# Altium footprint library DIP-CN  0607.PcbLib: 329 footprints (part 18 of 21)
Each footprint in its own frame and in the unit in brackets; x right, y up, seen from the top. Pads: shape width x height; smd on the part's side, far side on the other; paste and mask are expansions set on the pad; w line width, h text height; cw(c..) or ccw(c..) is an arc to the next point about the centre after c.
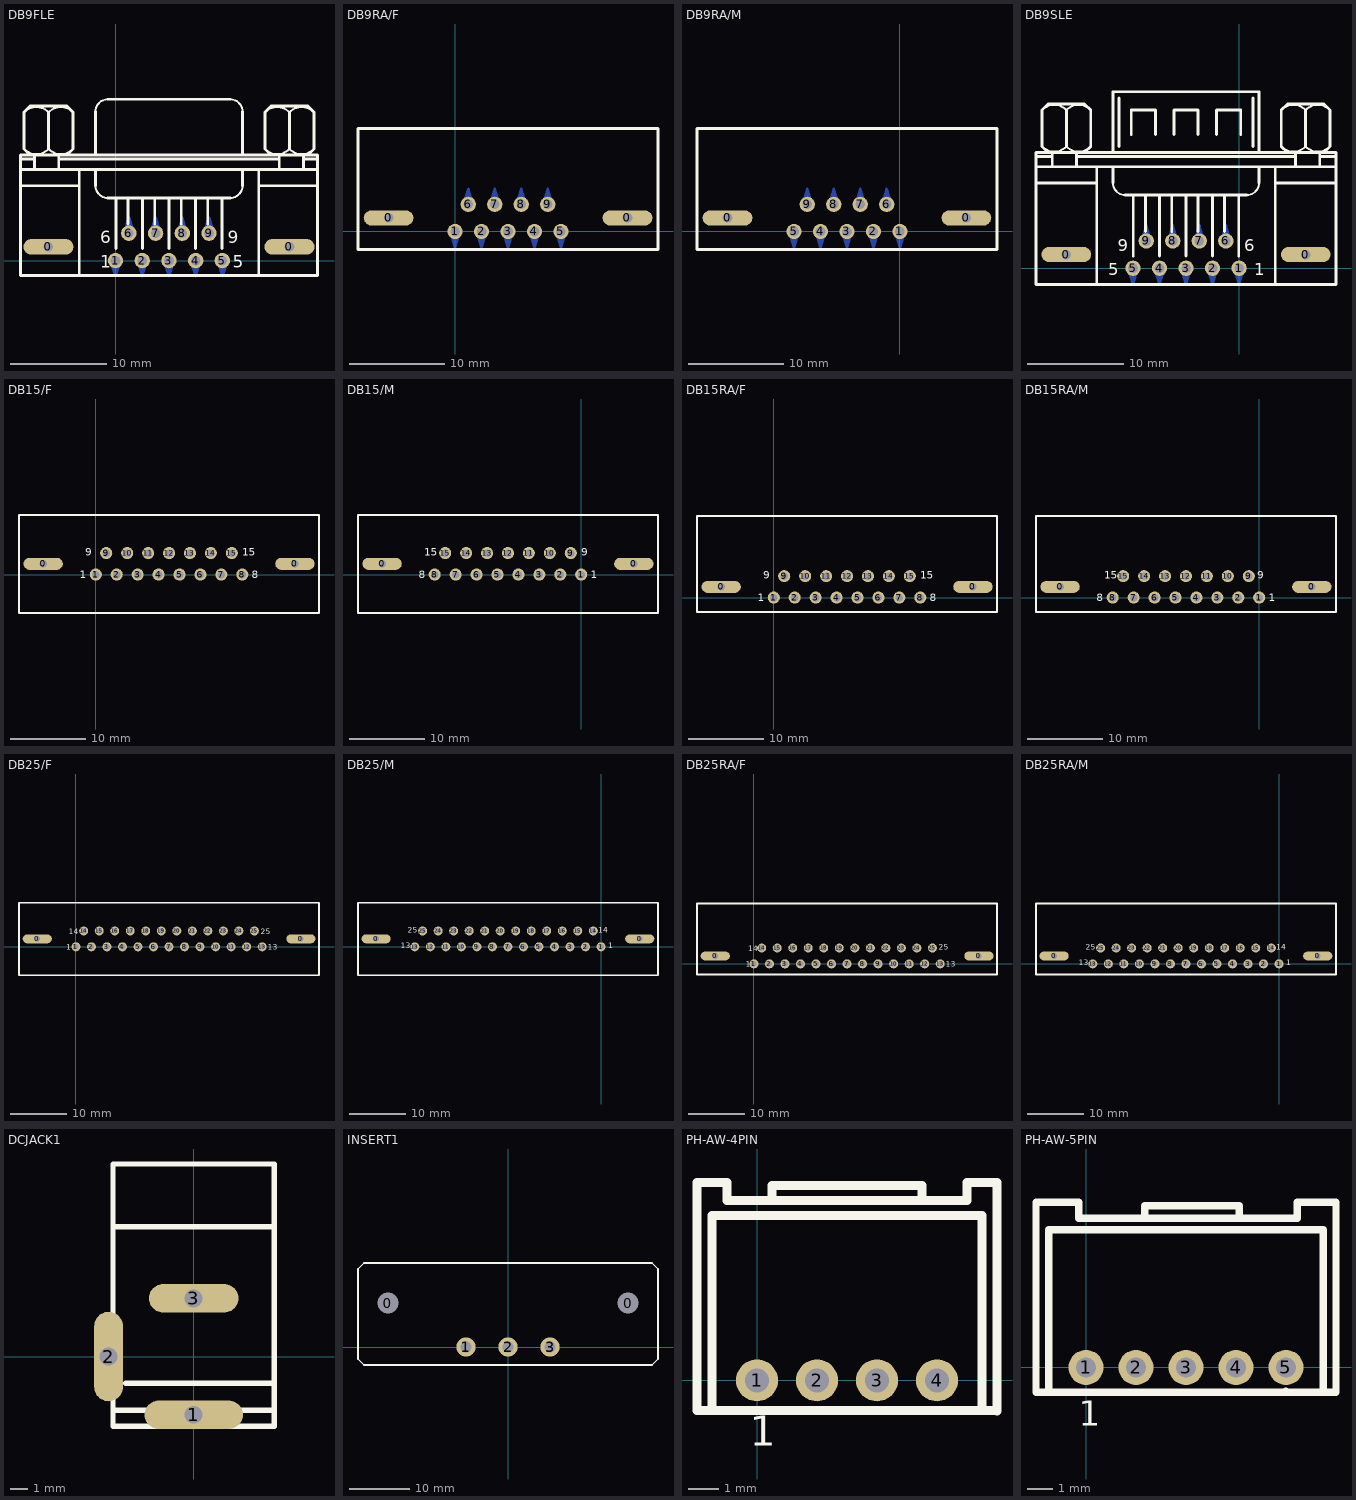
[diagram p17: the footprints below, top view; thin cyan lines are the x and y axes]

## DB9FLE [mm]
pads (11):
  oval 5.2x1.6 hole 1: 0(-6.96,1.42) 0(18.04,1.42)
  round 1.6 hole 1: 1(0,0) 2(2.77,0) 3(5.54,0) 4(8.31,0) 5(11.08,0) 6(1.385,2.84) 7(4.155,2.84) 8(6.925,2.84) 9(9.695,2.84)
BottomLayer:
  lines w0.3: -0.469,-0.03 0,-1.6 ; 0,0 0,-1.6 ; 0.471,-0.056 0,-1.6 ; 0.914,2.896 1.385,4.44 ; 1.385,2.84 1.385,4.44 ; 1.854,2.87 1.385,4.44 ; 2.301,-0.03 2.77,-1.6 ; 2.77,0 2.77,-1.6 ; 3.241,-0.056 2.77,-1.6 ; 3.684,2.896 4.155,4.44 ; 4.155,2.84 4.155,4.44 ; 4.624,2.87 4.155,4.44 ; 5.071,-0.03 5.54,-1.6 ; 5.54,0 5.54,-1.6 ; 6.011,-0.056 5.54,-1.6 ; 6.454,2.896 6.925,4.44 ; 6.925,2.84 6.925,4.44 ; 7.394,2.87 6.925,4.44 ; 7.841,-0.03 8.31,-1.6 ; 8.31,0 8.31,-1.6 ; 8.781,-0.056 8.31,-1.6 ; 9.224,2.896 9.695,4.44 ; 9.695,2.84 9.695,4.44 ; 10.164,2.87 9.695,4.44 ; 10.611,-0.03 11.08,-1.6 ; 11.08,0 11.08,-1.6 ; 11.551,-0.056 11.08,-1.6
TopOverlay:
  lines w0.203: -9.485,11.573 ccw(c-8.213,12.845) -6.941,11.573 ; -9.485,15.387 cw(c-8.213,14.115) -6.941,15.387 ; -6.945,11.573 ccw(c-5.673,12.845) -4.401,11.573 ; -6.945,15.387 cw(c-5.673,14.115) -4.401,15.387 ; -2.074,7.765 ccw(c-0.804,7.765) -0.804,6.495 ; -2.074,15.46 cw(c-0.804,15.46) -0.804,16.73 ; 11.896,6.495 ccw(c11.896,7.765) 13.166,7.765 ; 11.896,16.73 cw(c11.896,15.46) 13.166,15.46 ; 15.492,11.573 ccw(c16.764,12.845) 18.036,11.573 ; 15.492,15.387 cw(c16.764,14.115) 18.036,15.387 ; 18.032,11.573 ccw(c19.304,12.845) 20.576,11.573 ; 18.032,15.387 cw(c19.304,14.115) 20.576,15.387
  lines w0.3: -9.86,7.765 -3.768,7.765 ; -9.86,9.458 20.94,9.458 ; -9.86,10.517 -8.424,10.517 ; -8.848,10.94 -9.483,11.575 -9.483,15.385 -8.848,16.02 -5.038,16.02 -4.403,15.385 -4.403,11.575 -5.038,10.94 ; -8.424,9.458 -8.424,10.94 ; -6.943,11.575 -6.943,15.385 ; -5.884,9.458 -5.884,10.94 ; -5.884,10.517 16.976,10.517 ; -3.768,9.458 -3.768,-1.56 ; -2.074,7.765 -2.074,9.458 ; -2.074,10.94 -2.074,15.46 ; -0.804,6.495 11.896,6.495 ; -0.804,16.73 11.896,16.73 ; 0.042,1.27 0.042,6.495 ; 1.312,3.81 1.312,6.495 ; 2.794,1.27 2.794,6.495 ; 4.064,3.81 4.064,6.495 ; 5.546,1.27 5.546,6.495 ; 6.816,3.81 6.816,6.495 ; 8.297,1.27 8.297,6.495 ; 9.567,3.81 9.567,6.495 ; 11.049,1.27 11.049,6.495 ; 13.166,7.765 13.166,9.458 ; 13.166,10.94 13.166,15.46 ; 14.859,7.765 20.94,7.765 ; 14.859,9.458 14.859,-1.56 ; 16.129,10.94 15.494,11.575 15.494,15.385 16.129,16.02 19.939,16.02 20.574,15.385 20.574,11.575 19.939,10.94 ; 16.976,9.458 16.976,10.94 ; 18.034,11.575 18.034,15.385 ; 19.516,9.458 19.516,10.94 ; 19.516,10.517 20.94,10.517 ; -3.768,-1.56 -9.86,-1.56 -9.86,10.94 20.94,10.94 20.94,-1.56 14.859,-1.56 ; -3.768,-1.56 14.859,-1.56
  text "6" at -1.566,1.778 h1.27
  text "5" at 12.15,-0.762 h1.27
  text "9" at 11.642,1.778 h1.27
  text "1" at -1.566,-0.762 h1.27
BottomOverlay:
  lines w0.3: -0.864,1.422 11.6,1.425 ; 1.385,-1.883 1.386,1.415 ; 2.769,1.425 2.77,4.723 ; 4.155,-1.883 4.156,1.415 ; 5.539,1.425 5.54,4.723 ; 6.925,-1.883 6.926,1.415 ; 8.309,1.425 8.31,4.723 ; 9.695,-1.883 9.696,1.415
BottomSolder:
  lines w0.3: -0.485,-0.06 0,-1.6 ; 0,0 0,-1.6 ; 0.485,-0.06 0,-1.6 ; 0.9,2.9 1.385,4.44 ; 1.385,2.84 1.385,4.44 ; 1.87,2.9 1.385,4.44 ; 2.285,-0.06 2.77,-1.6 ; 2.77,0 2.77,-1.6 ; 3.255,-0.06 2.77,-1.6 ; 3.67,2.9 4.155,4.44 ; 4.155,2.84 4.155,4.44 ; 4.64,2.9 4.155,4.44 ; 5.055,-0.06 5.54,-1.6 ; 5.54,0 5.54,-1.6 ; 6.025,-0.06 5.54,-1.6 ; 6.44,2.9 6.925,4.44 ; 6.925,2.84 6.925,4.44 ; 7.41,2.9 6.925,4.44 ; 7.825,-0.06 8.31,-1.6 ; 8.31,0 8.31,-1.6 ; 8.795,-0.06 8.31,-1.6 ; 9.21,2.9 9.695,4.44 ; 9.695,2.84 9.695,4.44 ; 10.18,2.9 9.695,4.44 ; 10.595,-0.06 11.08,-1.6 ; 11.08,0 11.08,-1.6 ; 11.565,-0.06 11.08,-1.6
DrillDrawing:
  lines w0.2: -8.085,0.92 cw(c-8.085,1.42) -8.085,1.92 ; -5.885,0.92 ccw(c-5.885,1.42) -5.885,1.92 ; 16.94,0.92 cw(c16.94,1.42) 16.94,1.92 ; 19.14,0.92 ccw(c19.14,1.42) 19.14,1.92
  lines w0.3: -8.085,0.92 -5.885,0.92 ; -8.085,1.92 -5.885,1.92 ; -7.985,1.42 -6.985,1.42 -5.985,1.42 ; -6.96,1.12 -6.96,1.42 -6.96,1.72 ; 16.94,0.92 19.14,0.92 ; 16.94,1.92 19.14,1.92 ; 17.04,1.42 18.04,1.42 ; 18.04,1.12 18.04,1.42 ; 18.04,1.72 18.04,1.42 ; 19.04,1.42 18.04,1.42
  text "3.2X1.0mm" at -11.2,2.35 h1.3
  text "3.2X1.0mm" at 13.281,2.25 h1.3

## DB9RA/F [mm]
pads (11):
  oval 5.2x1.6 hole 1: 0(-6.96,1.42) 0(18.04,1.42)
  round 1.6 hole 1: 1(0,0) 2(2.77,0) 3(5.54,0) 4(8.31,0) 5(11.08,0) 6(1.385,2.84) 7(4.155,2.84) 8(6.925,2.84) 9(9.695,2.84)
BottomLayer:
  lines w0.3: -0.469,-0.03 0,-1.6 ; 0,0 0,-1.6 ; 0.471,-0.056 0,-1.6 ; 0.914,2.896 1.385,4.44 ; 1.385,2.84 1.385,4.44 ; 1.854,2.87 1.385,4.44 ; 2.301,-0.03 2.77,-1.6 ; 2.77,0 2.77,-1.6 ; 3.241,-0.056 2.77,-1.6 ; 3.684,2.896 4.155,4.44 ; 4.155,2.84 4.155,4.44 ; 4.624,2.87 4.155,4.44 ; 5.071,-0.03 5.54,-1.6 ; 5.54,0 5.54,-1.6 ; 6.011,-0.056 5.54,-1.6 ; 6.454,2.896 6.925,4.44 ; 6.925,2.84 6.925,4.44 ; 7.394,2.87 6.925,4.44 ; 7.841,-0.03 8.31,-1.6 ; 8.31,0 8.31,-1.6 ; 8.781,-0.056 8.31,-1.6 ; 9.224,2.896 9.695,4.44 ; 9.695,2.84 9.695,4.44 ; 10.164,2.87 9.695,4.44 ; 10.611,-0.03 11.08,-1.6 ; 11.08,0 11.08,-1.6 ; 11.551,-0.056 11.08,-1.6
TopOverlay:
  lines w0.3: -10.16,-1.905 -10.16,10.795 21.234,10.795 21.234,-1.905 -10.16,-1.905
BottomOverlay:
  lines w0.3: -0.864,1.422 11.6,1.425 ; 1.385,-1.883 1.386,1.415 ; 2.769,1.425 2.77,4.723 ; 4.155,-1.883 4.156,1.415 ; 5.539,1.425 5.54,4.723 ; 6.925,-1.883 6.926,1.415 ; 8.309,1.425 8.31,4.723 ; 9.695,-1.883 9.696,1.415
BottomSolder:
  lines w0.3: -0.485,-0.06 0,-1.6 ; 0,0 0,-1.6 ; 0.485,-0.06 0,-1.6 ; 0.9,2.9 1.385,4.44 ; 1.385,2.84 1.385,4.44 ; 1.87,2.9 1.385,4.44 ; 1.9,2.8 1.385,4.44 ; 2.285,-0.06 2.77,-1.6 ; 2.77,0 2.77,-1.6 ; 3.255,-0.06 2.77,-1.6 ; 3.67,2.9 4.155,4.44 ; 4.155,2.84 4.155,4.44 ; 4.64,2.9 4.155,4.44 ; 5.055,-0.06 5.54,-1.6 ; 5.54,0 5.54,-1.6 ; 6.025,-0.06 5.54,-1.6 ; 6.44,2.9 6.925,4.44 ; 6.925,2.84 6.925,4.44 ; 7.41,2.9 6.925,4.44 ; 7.825,-0.06 8.31,-1.6 ; 8.31,0 8.31,-1.6 ; 8.795,-0.06 8.31,-1.6 ; 9.21,2.9 9.695,4.44 ; 9.695,2.84 9.695,4.44 ; 10.18,2.9 9.695,4.44 ; 10.595,-0.06 11.08,-1.6 ; 11.08,0 11.08,-1.6 ; 11.565,-0.06 11.08,-1.6
DrillDrawing:
  lines w0.2: -8.085,0.92 cw(c-8.085,1.42) -8.085,1.92 ; -5.885,0.92 ccw(c-5.885,1.42) -5.885,1.92 ; 16.94,0.92 cw(c16.94,1.42) 16.94,1.92 ; 19.14,0.92 ccw(c19.14,1.42) 19.14,1.92
  lines w0.3: -8.085,0.92 -5.885,0.92 ; -8.085,1.92 -5.885,1.92 ; -7.985,1.42 -6.985,1.42 -5.985,1.42 ; -6.96,1.12 -6.96,1.42 -6.96,1.72 ; 16.94,0.92 19.14,0.92 ; 16.94,1.92 19.14,1.92 ; 17.04,1.42 18.04,1.42 ; 18.04,1.12 18.04,1.42 ; 18.04,1.72 18.04,1.42 ; 19.04,1.42 18.04,1.42
  text "3.2X1.0mm" at -11.2,2.35 h1.3
  text "3.2X1.0mm" at 13.281,2.25 h1.3

## DB9RA/M [mm]
pads (11):
  oval 5.2x1.6 hole 1: 0(-18.04,1.42) 0(6.96,1.42)
  round 1.6 hole 1: 1(0,0) 2(-2.77,0) 3(-5.54,0) 4(-8.31,0) 5(-11.08,0) 6(-1.385,2.84) 7(-4.155,2.84) 8(-6.925,2.84) 9(-9.695,2.84)
BottomLayer:
  lines w0.3: -11.551,-0.056 -11.08,-1.6 ; -11.08,0 -11.08,-1.6 ; -10.611,-0.03 -11.08,-1.6 ; -10.164,2.87 -9.695,4.44 ; -9.695,2.84 -9.695,4.44 ; -9.224,2.896 -9.695,4.44 ; -8.781,-0.056 -8.31,-1.6 ; -8.31,0 -8.31,-1.6 ; -7.841,-0.03 -8.31,-1.6 ; -7.394,2.87 -6.925,4.44 ; -6.925,2.84 -6.925,4.44 ; -6.454,2.896 -6.925,4.44 ; -6.011,-0.056 -5.54,-1.6 ; -5.54,0 -5.54,-1.6 ; -5.071,-0.03 -5.54,-1.6 ; -4.624,2.87 -4.155,4.44 ; -4.155,2.84 -4.155,4.44 ; -3.684,2.896 -4.155,4.44 ; -3.241,-0.056 -2.77,-1.6 ; -2.77,0 -2.77,-1.6 ; -2.301,-0.03 -2.77,-1.6 ; -1.854,2.87 -1.385,4.44 ; -1.385,2.84 -1.385,4.44 ; -0.914,2.896 -1.385,4.44 ; -0.471,-0.056 0,-1.6 ; 0,0 0,-1.6 ; 0.469,-0.03 0,-1.6
TopOverlay:
  lines w0.3: -21.234,-1.905 10.16,-1.905 10.16,10.795 -21.234,10.795 -21.234,-1.905
BottomOverlay:
  lines w0.3: -11.6,1.425 0.864,1.422 ; -9.696,1.415 -9.695,-1.883 ; -8.31,4.723 -8.309,1.425 ; -6.926,1.415 -6.925,-1.883 ; -5.54,4.723 -5.539,1.425 ; -4.156,1.415 -4.155,-1.883 ; -2.77,4.723 -2.769,1.425 ; -1.386,1.415 -1.385,-1.883
BottomSolder:
  lines w0.3: -11.565,-0.06 -11.08,-1.6 ; -11.08,0 -11.08,-1.6 ; -10.595,-0.06 -11.08,-1.6 ; -10.18,2.9 -9.695,4.44 ; -9.695,2.84 -9.695,4.44 ; -9.21,2.9 -9.695,4.44 ; -8.795,-0.06 -8.31,-1.6 ; -8.31,0 -8.31,-1.6 ; -7.825,-0.06 -8.31,-1.6 ; -7.41,2.9 -6.925,4.44 ; -6.925,2.84 -6.925,4.44 ; -6.44,2.9 -6.925,4.44 ; -6.025,-0.06 -5.54,-1.6 ; -5.54,0 -5.54,-1.6 ; -5.055,-0.06 -5.54,-1.6 ; -4.64,2.9 -4.155,4.44 ; -4.155,2.84 -4.155,4.44 ; -3.67,2.9 -4.155,4.44 ; -3.255,-0.06 -2.77,-1.6 ; -2.77,0 -2.77,-1.6 ; -2.285,-0.06 -2.77,-1.6 ; -1.9,2.8 -1.385,4.44 ; -1.87,2.9 -1.385,4.44 ; -1.385,2.84 -1.385,4.44 ; -0.9,2.9 -1.385,4.44 ; -0.485,-0.06 0,-1.6 ; 0,0 0,-1.6 ; 0.485,-0.06 0,-1.6
DrillDrawing:
  lines w0.2: -19.14,0.92 cw(c-19.14,1.42) -19.14,1.92 ; -16.94,0.92 ccw(c-16.94,1.42) -16.94,1.92 ; 5.885,0.92 cw(c5.885,1.42) 5.885,1.92 ; 8.085,0.92 ccw(c8.085,1.42) 8.085,1.92
  lines w0.3: -19.14,0.92 -16.94,0.92 ; -19.14,1.92 -16.94,1.92 ; -19.04,1.42 -18.04,1.42 ; -18.04,1.12 -18.04,1.42 ; -18.04,1.72 -18.04,1.42 ; -17.04,1.42 -18.04,1.42 ; 5.885,0.92 8.085,0.92 ; 5.885,1.92 8.085,1.92 ; 5.985,1.42 6.985,1.42 7.985,1.42 ; 6.96,1.12 6.96,1.42 6.96,1.72
  text "3.2X1.0mm" at -22.25,2.5 h1.3
  text "3.2X1.0mm" at 2,2.5 h1.3

## DB9SLE [mm]
pads (11):
  oval 5.2x1.6 hole 1: 0(-18.04,1.42) 0(6.96,1.42)
  round 1.6 hole 1: 1(0,0) 2(-2.77,0) 3(-5.54,0) 4(-8.31,0) 5(-11.08,0) 6(-1.385,2.84) 7(-4.155,2.84) 8(-6.925,2.84) 9(-9.695,2.84)
BottomLayer:
  lines w0.3: -11.551,-0.056 -11.08,-1.6 ; -11.08,0 -11.08,-1.6 ; -10.611,-0.03 -11.08,-1.6 ; -10.164,2.87 -9.695,4.44 ; -9.695,2.84 -9.695,4.44 ; -9.224,2.896 -9.695,4.44 ; -8.781,-0.056 -8.31,-1.6 ; -8.31,0 -8.31,-1.6 ; -7.841,-0.03 -8.31,-1.6 ; -7.394,2.87 -6.925,4.44 ; -6.925,2.84 -6.925,4.44 ; -6.454,2.896 -6.925,4.44 ; -6.011,-0.056 -5.54,-1.6 ; -5.54,0 -5.54,-1.6 ; -5.071,-0.03 -5.54,-1.6 ; -4.624,2.87 -4.155,4.44 ; -4.155,2.84 -4.155,4.44 ; -3.684,2.896 -4.155,4.44 ; -3.241,-0.056 -2.77,-1.6 ; -2.77,0 -2.77,-1.6 ; -2.301,-0.03 -2.77,-1.6 ; -1.854,2.87 -1.385,4.44 ; -1.385,2.84 -1.385,4.44 ; -0.914,2.896 -1.385,4.44 ; -0.471,-0.056 0,-1.6 ; 0,0 0,-1.6 ; 0.469,-0.03 0,-1.6
TopOverlay:
  lines w0.203: -20.576,12.698 ccw(c-19.304,13.97) -18.032,12.698 ; -20.576,16.512 cw(c-19.304,15.24) -18.032,16.512 ; -18.036,12.698 ccw(c-16.764,13.97) -15.492,12.698 ; -18.036,16.512 cw(c-16.764,15.24) -15.492,16.512 ; -13.166,8.89 ccw(c-11.896,8.89) -11.896,7.62 ; 0.804,7.62 ccw(c0.804,8.89) 2.074,8.89 ; 4.4,12.698 ccw(c5.673,13.97) 6.945,12.698 ; 4.4,16.512 cw(c5.673,15.24) 6.945,16.512 ; 6.94,12.698 ccw(c8.213,13.97) 9.485,12.698 ; 6.94,16.512 cw(c8.213,15.24) 9.485,16.512
  lines w0.3: -21.209,8.89 -14.859,8.89 ; -21.209,10.583 10.118,10.583 ; -21.209,11.642 -19.516,11.642 ; -19.939,12.065 -20.574,12.7 -20.574,16.51 -19.939,17.145 -16.129,17.145 -15.494,16.51 -15.494,12.7 -16.129,12.065 ; -19.516,10.583 -19.516,12.065 ; -18.034,12.7 -18.034,16.51 ; -16.976,10.583 -16.976,12.065 ; -16.976,11.642 5.884,11.642 ; -14.859,10.583 -14.859,-1.693 ; -13.166,8.89 -13.166,10.583 ; -13.166,12.065 -13.166,18.415 2.074,18.415 2.074,12.065 ; -12.531,12.7 -12.531,17.78 ; -11.896,7.62 0.804,7.62 ; -11.261,13.97 -11.261,16.51 -8.721,16.51 -8.721,13.97 ; -11.049,1.27 -11.049,7.62 ; -9.779,3.81 -9.779,7.62 ; -8.297,1.27 -8.297,7.62 ; -7.027,3.81 -7.027,7.62 ; -6.816,13.97 -6.816,16.51 -4.276,16.51 -4.276,13.97 ; -5.546,1.27 -5.546,7.62 ; -4.276,3.81 -4.276,7.62 ; -2.794,1.27 -2.794,7.62 ; -2.371,13.97 -2.371,16.51 0.169,16.51 0.169,13.97 ; -1.524,3.81 -1.524,7.62 ; -0.042,1.27 -0.042,7.62 ; 1.439,12.7 1.439,17.78 ; 2.074,8.89 2.074,10.583 ; 3.768,8.89 10.118,8.89 ; 3.768,10.583 3.768,-1.693 ; 5.038,12.065 4.403,12.7 4.403,16.51 5.038,17.145 8.848,17.145 9.483,16.51 9.483,12.7 8.848,12.065 ; 5.884,10.583 5.884,12.065 ; 6.943,12.7 6.943,16.51 ; 8.424,10.583 8.424,12.065 ; 8.424,11.642 10.118,11.642 ; -14.859,-1.693 3.768,-1.693 ; -14.859,-1.693 -21.209,-1.693 -21.209,12.065 10.118,12.065 10.118,-1.693 3.768,-1.693
  text "9" at -12.658,1.778 h1.27
  text "5" at -13.674,-0.762 h1.27
  text "6" at 0.55,1.778 h1.27
  text "1" at 1.566,-0.762 h1.27
BottomOverlay:
  lines w0.3: -11.6,1.425 0.864,1.422 ; -9.696,1.415 -9.695,-1.883 ; -8.31,4.723 -8.309,1.425 ; -6.926,1.415 -6.925,-1.883 ; -5.54,4.723 -5.539,1.425 ; -4.156,1.415 -4.155,-1.883 ; -2.77,4.723 -2.769,1.425 ; -1.386,1.415 -1.385,-1.883
BottomSolder:
  lines w0.3: -11.565,-0.06 -11.08,-1.6 ; -11.08,0 -11.08,-1.6 ; -10.595,-0.06 -11.08,-1.6 ; -10.18,2.9 -9.695,4.44 ; -9.695,2.84 -9.695,4.44 ; -9.21,2.9 -9.695,4.44 ; -8.795,-0.06 -8.31,-1.6 ; -8.31,0 -8.31,-1.6 ; -7.825,-0.06 -8.31,-1.6 ; -7.41,2.9 -6.925,4.44 ; -6.925,2.84 -6.925,4.44 ; -6.44,2.9 -6.925,4.44 ; -6.025,-0.06 -5.54,-1.6 ; -5.54,0 -5.54,-1.6 ; -5.055,-0.06 -5.54,-1.6 ; -4.64,2.9 -4.155,4.44 ; -4.155,2.84 -4.155,4.44 ; -3.67,2.9 -4.155,4.44 ; -3.255,-0.06 -2.77,-1.6 ; -2.77,0 -2.77,-1.6 ; -2.285,-0.06 -2.77,-1.6 ; -1.9,2.8 -1.385,4.44 ; -1.87,2.9 -1.385,4.44 ; -1.385,2.84 -1.385,4.44 ; -0.9,2.9 -1.385,4.44 ; -0.485,-0.06 0,-1.6 ; 0,0 0,-1.6 ; 0.485,-0.06 0,-1.6
DrillDrawing:
  lines w0.2: -19.14,0.92 cw(c-19.14,1.42) -19.14,1.92 ; -16.94,0.92 ccw(c-16.94,1.42) -16.94,1.92 ; 5.885,0.92 cw(c5.885,1.42) 5.885,1.92 ; 8.085,0.92 ccw(c8.085,1.42) 8.085,1.92
  lines w0.3: -19.14,0.92 -16.94,0.92 ; -19.14,1.92 -16.94,1.92 ; -19.04,1.42 -18.04,1.42 ; -18.04,1.12 -18.04,1.42 ; -18.04,1.72 -18.04,1.42 ; -17.04,1.42 -18.04,1.42 ; 5.885,0.92 8.085,0.92 ; 5.885,1.92 8.085,1.92 ; 5.985,1.42 6.985,1.42 7.985,1.42 ; 6.96,1.12 6.96,1.42 6.96,1.72
  text "3.2X1.0mm" at 2.25,2.5 h1.3
  text "3.2X1.0mm" at -22.25,2.5 h1.3

## DB15/F [mm]
pads (17):
  oval 5.2x1.6 hole 1: 0(-6.96,1.42) 0(26.35,1.42)
  round 1.6 hole 1: 1(0,0) 2(2.77,0) 3(5.54,0) 4(8.31,0) 5(11.08,0) 6(13.85,0) 7(16.62,0) 8(19.39,0) 9(1.385,2.84) 10(4.155,2.84) 11(6.925,2.84) 12(9.695,2.84) 13(12.465,2.84) 14(15.235,2.84) 15(18.005,2.84)
TopOverlay:
  lines w0.3: -10.16,-5.08 29.54,-5.08 29.54,7.874 -10.16,7.874 -10.16,-5.08
  text "1" at -2.11,-0.5 h1
  text "9" at -1.36,2.5 h1
  text "15" at 19.39,2.5 h1
  text "8" at 20.64,-0.5 h1
DrillDrawing:
  lines w0.2: -8.06,0.92 cw(c-8.06,1.42) -8.06,1.92 ; -5.86,0.92 ccw(c-5.86,1.42) -5.86,1.92 ; 25.25,0.92 cw(c25.25,1.42) 25.25,1.92 ; 27.45,0.92 ccw(c27.45,1.42) 27.45,1.92
  lines w0.3: -8.06,0.92 -5.86,0.92 ; -8.06,1.92 -5.86,1.92 ; -7.96,1.42 -6.96,1.42 ; -6.96,1.12 -6.96,1.42 ; -6.96,1.72 -6.96,1.42 ; -5.96,1.42 -6.96,1.42 ; 25.25,0.92 27.45,0.92 ; 25.25,1.92 27.45,1.92 ; 25.35,1.42 26.35,1.42 ; 26.35,1.12 26.35,1.42 ; 26.35,1.72 26.35,1.42 ; 27.35,1.42 26.35,1.42
  text "3.2X1.0mm" at -11.86,2.32 h1.3
  text "3.2X1.0mm" at 21.435,2.323 h1.3

## DB15/M [mm]
pads (17):
  oval 5.2x1.6 hole 1: 0(-26.35,1.42) 0(6.96,1.42)
  round 1.6 hole 1: 1(0,0) 2(-2.77,0) 3(-5.54,0) 4(-8.31,0) 5(-11.08,0) 6(-13.85,0) 7(-16.62,0) 8(-19.39,0) 9(-1.385,2.84) 10(-4.155,2.84) 11(-6.925,2.84) 12(-9.695,2.84) 13(-12.465,2.84) 14(-15.235,2.84) 15(-18.005,2.84)
TopOverlay:
  lines w0.3: -29.54,-5.08 -29.54,7.874 10.16,7.874 10.16,-5.08 -29.54,-5.08
  text "8" at -21.5,-0.5 h1
  text "15" at -20.75,2.5 h1
  text "9" at 0,2.5 h1
  text "1" at 1.25,-0.5 h1
DrillDrawing:
  lines w0.2: -27.45,0.92 cw(c-27.45,1.42) -27.45,1.92 ; -25.25,0.92 ccw(c-25.25,1.42) -25.25,1.92 ; 5.86,0.92 cw(c5.86,1.42) 5.86,1.92 ; 8.06,0.92 ccw(c8.06,1.42) 8.06,1.92
  lines w0.3: -27.45,0.92 -25.25,0.92 ; -27.45,1.92 -25.25,1.92 ; -27.35,1.42 -26.35,1.42 ; -26.35,1.12 -26.35,1.42 ; -26.35,1.72 -26.35,1.42 ; -25.35,1.42 -26.35,1.42 ; 5.86,0.92 8.06,0.92 ; 5.86,1.92 8.06,1.92 ; 5.96,1.42 6.96,1.42 ; 6.96,1.12 6.96,1.42 ; 6.96,1.72 6.96,1.42 ; 7.96,1.42 6.96,1.42
  text "3.2X1.0mm" at -31,3 h1.3
  text "3.2X1.0mm" at 3,3 h1.3

## DB15RA/F [mm]
pads (17):
  oval 5.2x1.6 hole 1: 0(-6.96,1.42) 0(26.35,1.42)
  round 1.6 hole 1: 1(0,0) 2(2.77,0) 3(5.54,0) 4(8.31,0) 5(11.08,0) 6(13.85,0) 7(16.62,0) 8(19.39,0) 9(1.385,2.84) 10(4.155,2.84) 11(6.925,2.84) 12(9.695,2.84) 13(12.465,2.84) 14(15.235,2.84) 15(18.005,2.84)
TopOverlay:
  lines w0.3: -10.16,-1.905 29.54,-1.905 29.54,10.795 -10.16,10.795 -10.16,-1.905
  text "8" at 20.64,-0.5 h1
  text "15" at 19.39,2.5 h1
  text "9" at -1.36,2.5 h1
  text "1" at -2.11,-0.5 h1
DrillDrawing:
  lines w0.2: -8.06,0.92 cw(c-8.06,1.42) -8.06,1.92 ; -5.86,0.92 ccw(c-5.86,1.42) -5.86,1.92 ; 25.25,0.92 cw(c25.25,1.42) 25.25,1.92 ; 27.45,0.92 ccw(c27.45,1.42) 27.45,1.92
  lines w0.3: -8.06,0.92 -5.86,0.92 ; -8.06,1.92 -5.86,1.92 ; -7.96,1.42 -6.96,1.42 ; -6.96,1.12 -6.96,1.42 ; -6.96,1.72 -6.96,1.42 ; -5.96,1.42 -6.96,1.42 ; 25.25,0.92 27.45,0.92 ; 25.25,1.92 27.45,1.92 ; 25.35,1.42 26.35,1.42 ; 26.35,1.12 26.35,1.42 ; 26.35,1.72 26.35,1.42 ; 27.35,1.42 26.35,1.42
  text "3.2X1.0mm" at 21.435,2.323 h1.3
  text "3.2X1.0mm" at -11.86,2.32 h1.3

## DB15RA/M [mm]
pads (17):
  oval 5.2x1.6 hole 1: 0(-26.35,1.42) 0(6.96,1.42)
  round 1.6 hole 1: 1(0,0) 2(-2.77,0) 3(-5.54,0) 4(-8.31,0) 5(-11.08,0) 6(-13.85,0) 7(-16.62,0) 8(-19.39,0) 9(-1.385,2.84) 10(-4.155,2.84) 11(-6.925,2.84) 12(-9.695,2.84) 13(-12.465,2.84) 14(-15.235,2.84) 15(-18.005,2.84)
TopOverlay:
  lines w0.3: -29.54,-1.905 10.16,-1.905 10.16,10.795 -29.54,10.795 -29.54,-1.905
  text "8" at -20.64,-0.5 h1
  text "15" at -20.5,2.5 h1
  text "9" at -0.25,2.5 h1
  text "1" at 1.25,-0.5 h1
DrillDrawing:
  lines w0.2: -27.45,0.92 cw(c-27.45,1.42) -27.45,1.92 ; -25.25,0.92 ccw(c-25.25,1.42) -25.25,1.92 ; 5.86,0.92 cw(c5.86,1.42) 5.86,1.92 ; 8.06,0.92 ccw(c8.06,1.42) 8.06,1.92
  lines w0.3: -27.45,0.92 -25.25,0.92 ; -27.45,1.92 -25.25,1.92 ; -27.35,1.42 -26.35,1.42 ; -26.35,1.12 -26.35,1.42 ; -26.35,1.72 -26.35,1.42 ; -25.35,1.42 -26.35,1.42 ; 5.86,0.92 8.06,0.92 ; 5.86,1.92 8.06,1.92 ; 5.96,1.42 6.96,1.42 ; 6.96,1.12 6.96,1.42 ; 6.96,1.72 6.96,1.42 ; 7.96,1.42 6.96,1.42
  text "3.2X1.0mm" at -30.75,2.25 h1.3
  text "3.2X1.0mm" at 3,2.25 h1.3

## DB25/F [mm]
pads (27):
  oval 5.2x1.6 hole 1: 0(-6.9,1.42) 0(40.14,1.42)
  round 1.6 hole 1: 1(0,0) 2(2.77,0) 3(5.54,0) 4(8.31,0) 5(11.08,0) 6(13.85,0) 7(16.62,0) 8(19.39,0) 9(22.16,0) 10(24.93,0) 11(27.7,0) 12(30.47,0) 13(33.24,0) 14(1.385,2.84) 15(4.155,2.84) 16(6.925,2.84) 17(9.695,2.84) 18(12.465,2.84) 19(15.235,2.84) 20(18.005,2.84) 21(20.775,2.84) 22(23.545,2.84) 23(26.315,2.84) 24(29.085,2.84) 25(31.855,2.84)
TopOverlay:
  lines w0.3: -10.16,-5.08 -10.16,7.874 43.383,7.874 43.383,-5.08 -10.16,-5.08
  text "13" at 34.25,-0.5 h1
  text "25" at 33,2.25 h1
  text "14" at -1.25,2.25 h1
  text "1" at -1.75,-0.5 h1
DrillDrawing:
  lines w0.2: -8,0.92 cw(c-8,1.42) -8,1.92 ; -5.8,0.92 ccw(c-5.8,1.42) -5.8,1.92 ; 39.04,0.92 cw(c39.04,1.42) 39.04,1.92 ; 41.24,0.92 ccw(c41.24,1.42) 41.24,1.92
  lines w0.3: -8,0.92 -5.8,0.92 ; -8,1.92 -5.8,1.92 ; -7.9,1.42 -6.9,1.42 ; -6.9,1.12 -6.9,1.42 ; -6.9,1.72 -6.9,1.42 ; -5.9,1.42 -6.9,1.42 ; 39.04,0.92 41.24,0.92 ; 39.04,1.92 41.24,1.92 ; 39.14,1.42 40.14,1.42 ; 40.14,1.12 40.14,1.42 ; 40.14,1.72 40.14,1.42 ; 41.14,1.42 40.14,1.42
  text "3.2X1.0mm" at 35.225,2.323 h1.3
  text "3.2X1.0mm" at -11.815,2.323 h1.3

## DB25/M [mm]
pads (27):
  oval 5.2x1.6 hole 1: 0(-40.14,1.42) 0(6.9,1.42)
  round 1.6 hole 1: 1(0,0) 2(-2.77,0) 3(-5.54,0) 4(-8.31,0) 5(-11.08,0) 6(-13.85,0) 7(-16.62,0) 8(-19.39,0) 9(-22.16,0) 10(-24.93,0) 11(-27.7,0) 12(-30.47,0) 13(-33.24,0) 14(-1.385,2.84) 15(-4.155,2.84) 16(-6.925,2.84) 17(-9.695,2.84) 18(-12.465,2.84) 19(-15.235,2.84) 20(-18.005,2.84) 21(-20.775,2.84) 22(-23.545,2.84) 23(-26.315,2.84) 24(-29.085,2.84) 25(-31.855,2.84)
TopOverlay:
  lines w0.3: -43.383,-5.08 10.16,-5.08 10.16,7.874 -43.383,7.874 -43.383,-5.08
  text "25" at -34.5,2.5 h1
  text "14" at -0.5,2.5 h1
  text "1" at 1.25,-0.25 h1
  text "13" at -35.75,-0.25 h1
DrillDrawing:
  lines w0.2: -41.24,0.92 cw(c-41.24,1.42) -41.24,1.92 ; -39.04,0.92 ccw(c-39.04,1.42) -39.04,1.92 ; 5.8,0.92 cw(c5.8,1.42) 5.8,1.92 ; 8,0.92 ccw(c8,1.42) 8,1.92
  lines w0.3: -41.24,0.92 -39.04,0.92 ; -41.24,1.92 -39.04,1.92 ; -41.14,1.42 -40.14,1.42 ; -40.14,1.12 -40.14,1.42 ; -40.14,1.72 -40.14,1.42 ; -39.14,1.42 -40.14,1.42 ; 5.8,0.92 8,0.92 ; 5.8,1.92 8,1.92 ; 5.9,1.42 6.9,1.42 ; 6.9,1.12 6.9,1.42 ; 6.9,1.72 6.9,1.42 ; 7.9,1.42 6.9,1.42
  text "3.2X1.0mm" at -45.25,2.5 h1.3
  text "3.2X1.0mm" at 2,2.25 h1.3

## DB25RA/F [mm]
pads (27):
  oval 5.2x1.6 hole 1: 0(-6.9,1.42) 0(40.14,1.42)
  round 1.6 hole 1: 1(0,0) 2(2.77,0) 3(5.54,0) 4(8.31,0) 5(11.08,0) 6(13.85,0) 7(16.62,0) 8(19.39,0) 9(22.16,0) 10(24.93,0) 11(27.7,0) 12(30.47,0) 13(33.24,0) 14(1.385,2.84) 15(4.155,2.84) 16(6.925,2.84) 17(9.695,2.84) 18(12.465,2.84) 19(15.235,2.84) 20(18.005,2.84) 21(20.775,2.84) 22(23.545,2.84) 23(26.315,2.84) 24(29.085,2.84) 25(31.855,2.84)
TopOverlay:
  lines w0.3: -10.16,-1.905 43.383,-1.905 43.383,10.795 -10.16,10.795 -10.16,-1.905
  text "13" at 34.25,-0.5 h1
  text "1" at -1.5,-0.5 h1
  text "14" at -1,2.25 h1
  text "25" at 33,2.5 h1
DrillDrawing:
  lines w0.2: -8,0.92 cw(c-8,1.42) -8,1.92 ; -5.8,0.92 ccw(c-5.8,1.42) -5.8,1.92 ; 39.04,0.92 cw(c39.04,1.42) 39.04,1.92 ; 41.24,0.92 ccw(c41.24,1.42) 41.24,1.92
  lines w0.3: -8,0.92 -5.8,0.92 ; -8,1.92 -5.8,1.92 ; -7.9,1.42 -6.9,1.42 ; -6.9,1.12 -6.9,1.42 ; -6.9,1.72 -6.9,1.42 ; -5.9,1.42 -6.9,1.42 ; 39.04,0.92 41.24,0.92 ; 39.04,1.92 41.24,1.92 ; 39.14,1.42 40.14,1.42 ; 40.14,1.12 40.14,1.42 ; 40.14,1.72 40.14,1.42 ; 41.14,1.42 40.14,1.42
  text "3.2X1.0mm" at -11.815,2.323 h1.3
  text "3.2X1.0mm" at 35.225,2.323 h1.3

## DB25RA/M [mm]
pads (27):
  oval 5.2x1.6 hole 1: 0(-40.14,1.42) 0(6.9,1.42)
  round 1.6 hole 1: 1(0,0) 2(-2.77,0) 3(-5.54,0) 4(-8.31,0) 5(-11.08,0) 6(-13.85,0) 7(-16.62,0) 8(-19.39,0) 9(-22.16,0) 10(-24.93,0) 11(-27.7,0) 12(-30.47,0) 13(-33.24,0) 14(-1.385,2.84) 15(-4.155,2.84) 16(-6.925,2.84) 17(-9.695,2.84) 18(-12.465,2.84) 19(-15.235,2.84) 20(-18.005,2.84) 21(-20.775,2.84) 22(-23.545,2.84) 23(-26.315,2.84) 24(-29.085,2.84) 25(-31.855,2.84)
TopOverlay:
  lines w0.3: -43.383,-1.905 10.16,-1.905 10.16,10.795 -43.383,10.795 -43.383,-1.905
  text "13" at -35.75,-0.25 h1
  text "1" at 1.25,-0.25 h1
  text "14" at -0.5,2.5 h1
  text "25" at -34.5,2.5 h1
DrillDrawing:
  lines w0.2: -41.24,0.92 cw(c-41.24,1.42) -41.24,1.92 ; -39.04,0.92 ccw(c-39.04,1.42) -39.04,1.92 ; 5.8,0.92 cw(c5.8,1.42) 5.8,1.92 ; 8,0.92 ccw(c8,1.42) 8,1.92
  lines w0.3: -41.24,0.92 -39.04,0.92 ; -41.24,1.92 -39.04,1.92 ; -41.14,1.42 -40.14,1.42 ; -40.14,1.12 -40.14,1.42 ; -40.14,1.72 -40.14,1.42 ; -39.14,1.42 -40.14,1.42 ; 5.8,0.92 8,0.92 ; 5.8,1.92 8,1.92 ; 5.9,1.42 6.9,1.42 ; 6.9,1.12 6.9,1.42 ; 6.9,1.72 6.9,1.42 ; 7.9,1.42 6.9,1.42
  text "3.2X1.0mm" at 2.25,2.5 h1.3
  text "3.2X1.0mm" at -44.75,2.5 h1.3

## DCJACK1 [mm]
pads (3):
  oval 5.5x1.6 hole 1: 1(0,-3.25)
  oval 1.6x5 hole 1: 2(-4.75,0)
  oval 5x1.6 hole 1: 3(0,3.25)
TopOverlay:
  lines w0.3: -4.5,-3 -2.1,-3 ; -4.5,-1.9 -4.5,-3.9 -2.1,-3.9 ; -4.5,1.85 -4.5,10.75 4.5,10.75 4.5,-3.9 2.1,-3.9 ; -4.5,7.25 4.5,7.25 ; -3.8,-1.5 4.5,-1.5 ; 2.1,-3 4.5,-3
DrillDrawing:
  lines w0.3: -5.25,0 -4.25,0 ; -4.75,-1.5 -4.75,1.5 ; -1.75,-3.25 1.75,-3.25 ; -1.5,3.25 1.5,3.25 ; 0,-3.75 0,-2.75 ; 0,2.75 0,3.75 ; -5.25,-1.5 -5.25,1.5 -4.25,1.5 -4.25,-1.5 -5.25,-1.5 ; -1.75,-3.75 -1.75,-2.75 1.75,-2.75 1.75,-3.75 -1.75,-3.75 ; -1.5,2.75 1.5,2.75 1.5,3.75 -1.5,3.75 -1.5,2.75
  text "3.5X1.0 mm" at -5.325,-5.375 h1.3
  text "3.0X1.0 mm" at -5.6,-5.525 h1.3
  text "3.0X1.0 mm" at -5.15,3.975 h1.3

## INSERT1 [mm]
pads (5):
  round 3 hole 3.5 unplated: 0(-20.015,7.3) 0(20,7.3)
  round 3.2 hole 1.8: 1(-7,0) 2(0,0) 3(7,0)
TopOverlay:
  lines w0.3: -25,-2 -25,13 -24,14 24,14 25,13 25,-2 24,-3 -18,-3 -24,-3 -25,-2

## PH-AW-4PIN [mm]
height 5
pads (4):
  round 1.4 hole 0.8: 1(0,0) 2(2,0) 3(4,0) 4(6,0)
TopOverlay:
  lines w0.3: -2,-1 8,-1 ; -2,-0.9 -2,6.6 -1,6.6 -1,6 7,6 7,6.6 8,6.6 8,-1.025 ; -1.5,-0.975 -1.5,5.5 7.5,5.5 7.5,-0.95 ; 0.5,6 0.5,6.5 5.5,6.5 5.5,6
  text "1" at -0.25,-2.175 h1
BottomOverlay:
  lines w0.3: 1,-1 1,1 ; 3,-1 3,1 ; 5,-1 5,1

## PH-AW-5PIN [mm]
height 5
pads (5):
  round 1.4 hole 0.8: 1(0,0) 2(2,0) 3(4,0) 4(6,0) 5(8,0)
TopOverlay:
  lines w0.3: -2,-1 10,-1 ; -2,-0.9 -2,6.6 -0.3,6.6 -0.3,5.975 8.45,5.975 8.45,6.6 9.95,6.6 ; -1.5,-0.975 -1.5,5.5 9.45,5.5 ; 2.35,6 2.35,6.475 6.125,6.475 6.125,6 ; 7.95,-1 8,-0.95 ; 9.5,-0.95 9.5,5.5 ; 10,-0.95 10,6.6
  text "1" at -0.3,-2.325 h1
BottomOverlay:
  lines w0.3: 1,-1 1,1 ; 3,-1 3,1 ; 5,-1 5,1 ; 7,-1 7,1